# EAGLE library part 46207-0008 (library SamacSys_Parts)
Molex MINI-FIT JR. Series, Series Number 46207, 4.2mm Pitch 8 Way 2 Row Straight PCB Header, Solder Termination, 12A Source: Datasheet
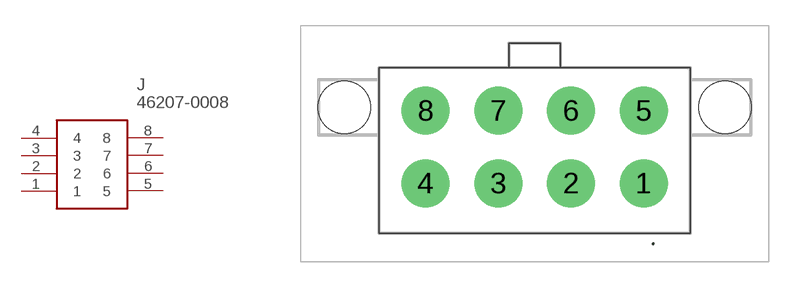
[diagram p7: symbol with the pads of 462070008; footprint 462070008]

Designator prefix J

## 46207-0008 (DESCRIPTION: Molex MINI-FIT JR. Series, Series Number 46207, 4.2mm Pitch 8 Way 2 Row Straight PCB Header, Solder Termination, 12A; HEIGHT: 13.85mm; MANUFACTURER_NAME: Molex; MANUFACTURER_PART_NUMBER: 46207-0008; MOUSER_PART_NUMBER: 538-46207-0008; MOUSER_PRICE-STOCK: https://www.mouser.co.uk/ProductDetail/Molex/46207-0008?qs=MV7SBVuOwbvtKebxd4vmug%3D%3D)  [462070008]
1  1
2  2
3  3
4  4
5  5
6  6
7  7
8  8

## Footprint 462070008 (pad centres in mm)
46207-0008-5
drill 1.85 pad 2.775: 1 0,0; 2 -4.2,0; 3 -8.4,0; 4 -12.6,0; 5 0,4.2; 6 -4.2,4.2; 7 -8.4,4.2; 8 -12.6,4.2
hole 3.03 at 4.7,4.391
hole 3.03 at -17.3,4.391